# Altium footprint library screwire.PcbLib: 148 footprints (part 10 of 10)
Each footprint in its own frame and in the unit in brackets; x right, y up, seen from the top. Pads: shape width x height; smd on the part's side, far side on the other; paste and mask are expansions set on the pad; w line width, h text height; cw(c..) or ccw(c..) is an arc to the next point about the centre after c.
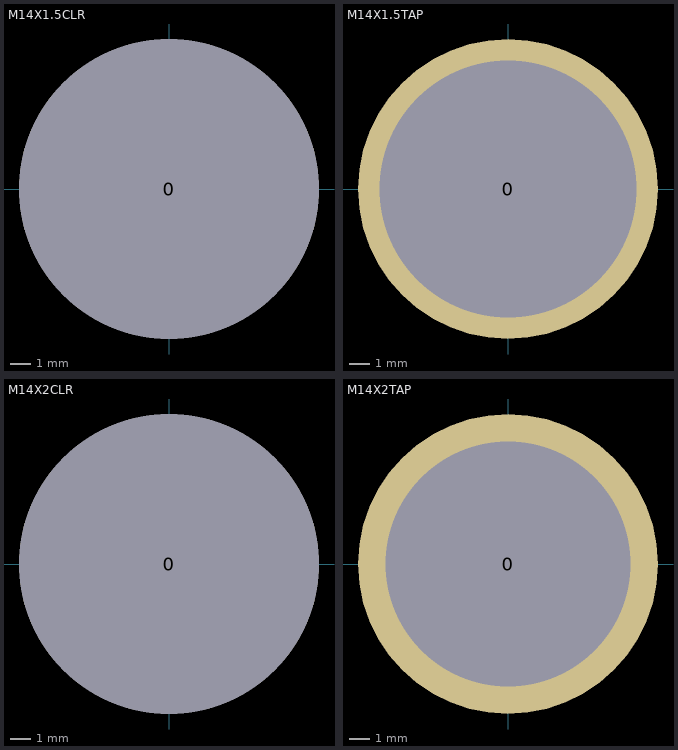
[diagram p9: the footprints below, top view; thin cyan lines are the x and y axes]

## M14X1.5CLR [mil]
pads (1):
  round 575 hole 575: 0(0,0)

## M14X1.5TAP [mil]
pads (1):
  round 575 hole 492: 0(0,0)

## M14X2CLR [mil]
pads (1):
  round 575 hole 575: 0(0,0)

## M14X2TAP [mil]
pads (1):
  round 575 hole 469: 0(0,0)